# EAGLE library part SI1145 (library Pinoccio)
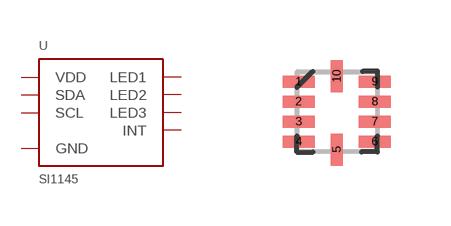
[diagram p46: symbol with the pads of QFN-10-SI1145; footprint QFN-10-SI1145]

Designator prefix -

## SI1145  [QFN-10-SI1145]
1  SDA
2  SCL
3  VDD
4  INT
6  LED2
7  LED3
8  GND
9  LED1

## Footprint QFN-10-SI1145 (pad centres in mm)
smd 0.8 x 0.3: 1 0.03,1.75; 2 0.03,1.25; 3 0.03,0.75; 4 0.03,0.25; 6 1.94,0.25; 7 1.94,0.75; 8 1.94,1.25; 9 1.94,1.75
smd 0.3 x 0.8: 5 0.99,0.05; 10 0.99,1.89